# EAGLE library part OSIBOARD (library OSIBOARD_FOOTPRINT)
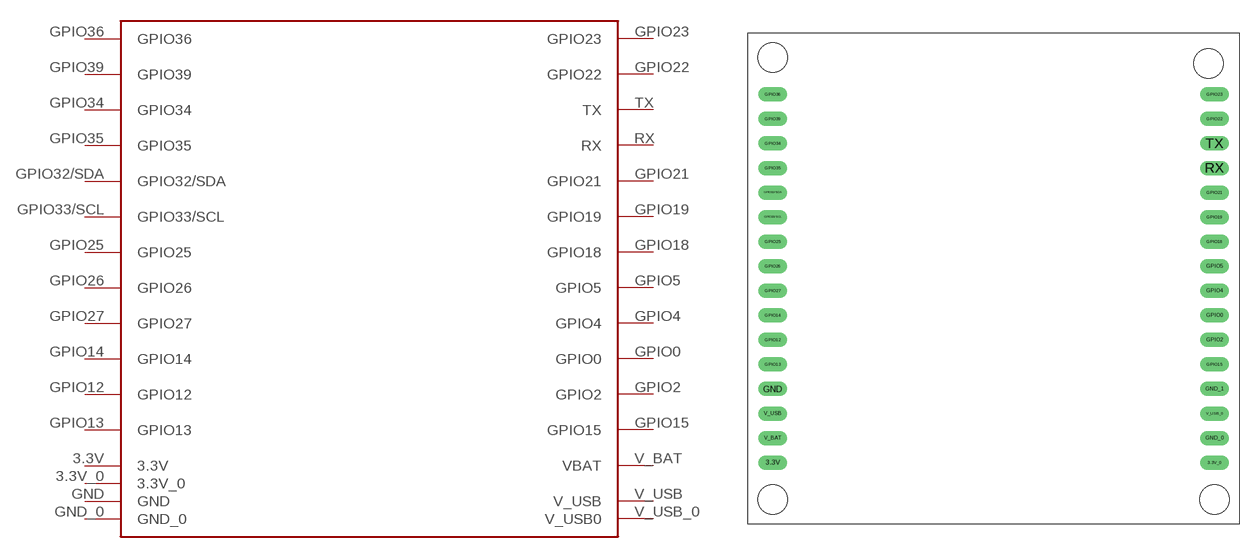
[diagram p0: symbol with the pads of OSIBOARD; footprint OSIBOARD]

Designator prefix -

## OSIBOARD  [OSIBOARD]
3.3V  3.3V
3.3V_0  3.3V_0
GND  GND
GND_0  GND_0
GPIO0  GPIO0
GPIO2  GPIO2
GPIO4  GPIO4
GPIO5  GPIO5
GPIO12  GPIO12
GPIO13  GPIO13
GPIO14  GPIO14
GPIO15  GPIO15
GPIO18  GPIO18
GPIO19  GPIO19
GPIO21  GPIO21
GPIO22  GPIO22
GPIO23  GPIO23
GPIO25  GPIO25
GPIO26  GPIO26
GPIO27  GPIO27
GPIO32/SDA  GPIO32/SDA
GPIO33/SCL  GPIO33/SCL
GPIO34  GPIO34
GPIO35  GPIO35
GPIO36  GPIO36
GPIO39  GPIO39
RX  RX
TX  TX
V_BAT  VBAT
V_USB  V_USB
V_USB_0  V_USB0

## Footprint OSIBOARD (pad centres in mm)
drill 1.016 long: 3.3V 2.54,6.35; 3.3V_0 48.26,6.35; GND 2.54,13.97; GND_0 48.26,8.89; GND_1 48.26,13.97; GPIO0 48.26,21.59; GPIO2 48.26,19.05; GPIO4 48.26,24.13; GPIO5 48.26,26.67; GPIO12 2.54,19.05; GPIO13 2.54,16.51; GPIO14 2.54,21.59; GPIO15 48.26,16.51; GPIO18 48.26,29.21; GPIO19 48.26,31.75; GPIO21 48.26,34.29; GPIO22 48.26,41.91; GPIO23 48.26,44.45; GPIO25 2.54,29.21; GPIO26 2.54,26.67; GPIO27 2.54,24.13; GPIO32/SDA 2.54,34.29; GPIO33/SCL 2.54,31.75; GPIO34 2.54,39.37; GPIO35 2.54,36.83; GPIO36 2.54,44.45; GPIO39 2.54,41.91; RX 48.26,36.83; TX 48.26,39.37; V_BAT 2.54,8.89; V_USB 2.54,11.43; V_USB_0 48.26,11.43